# EAGLE library part BAT54TW (library BaseApp)
Digikey No :- __BAT54TW-FDICT-ND__
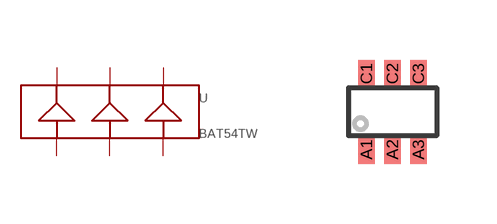
[diagram p63: symbol with the pads of SOT-363; footprint SOT-363]

Designator prefix -

## BAT54TW  [SOT-363]
A1  A1
A2  A2
A3  A3
C1  C1
C2  C2
C3  C3

## Footprint SOT-363 (pad centres in mm)
smd 0.42 x 0.7: A1 -0.65,-0.95; A2 0,-0.95; A3 0.65,-0.95; C1 -0.65,0.95; C2 0,0.95; C3 0.65,0.95